# EAGLE library part FAN4852 (library NXPHLITE)
FAN4852 9MHz Low-Power Dual CMOS Amplifier The FAN4852 is a dual, rail-to-rail output, low-power, CMOS amplifier that consumes only 800µA of supply current, while providing ±50mA of output short-circuit current. This amplifier is designed to operate supplies from 2.5V to 5V. Additionally, the FAN4852 is EMI hardened, which minimizes EMI interference. It has a maximum input offset voltage of 1mV and an input common-mode range that includes ground. The FAN4852 is designed on a CMOS process and provides 9MHz of bandwidth and 6V/µs of slew rate. The combination of low-power, low-voltage operation and a small package make this amplifier well suited for general-purpose and battery-powered applications.
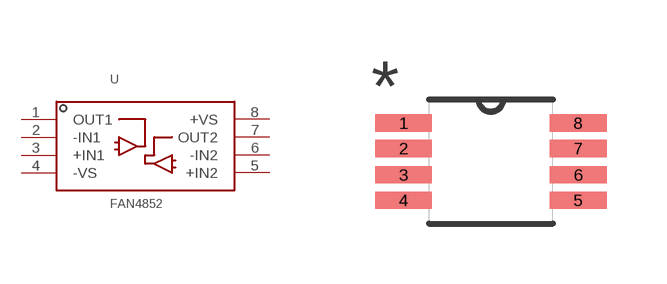
[diagram p0: symbol with the pads of SOP65P490X110-8N; footprint SOP65P490X110-8N]

Designator prefix -

## FAN4852  [SOP65P490X110-8N]
1  OUT1  out
2  -IN1  in
3  +IN1  in
4  -VS  pas
5  +IN2  in
6  -IN2  in
7  OUT2  out
8  +VS  pas

## Footprint SOP65P490X110-8N (pad centres in mm)
smd 1.422 x 0.432: 1 -2.184,0.965; 2 -2.184,0.33; 3 -2.184,-0.33; 4 -2.184,-0.965; 5 2.184,-0.965; 6 2.184,-0.33; 7 2.184,0.33; 8 2.184,0.965